# Altium schematic symbol library XPT2046.SchLib: 1 symbol
Pins are listed as number, name and electrical type; pins without a type are passive.

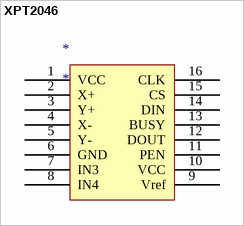
[diagram p0: symbol XPT2046]

## XPT2046
designator *
pins: 1 VCC (power), 2 X+ (power), 3 Y+ (power), 4 X- (power), 5 Y- (power), 6 GND (power), 7 IN3 (power), 8 IN4 (power), 9 Vref (power), 10 VCC (power), 11 PEN (power), 12 DOUT (power), 13 BUSY (power), 14 DIN (power), 15 CS (power), 16 CLK (power)